# Altium schematic symbol library 220k 2W res TH.SchLib: 1 symbol
Pins are listed as number, name and electrical type; pins without a type are passive.

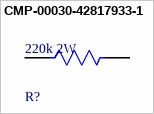
[diagram p0: symbol CMP-00030-42817933-1]

## CMP-00030-42817933-1
designator R?, comment 220k 2W
PR02000201003JA100 Fixed Resistor, Metal Film, 2W, 220000ohm, 500V, 5% +/-Tol, 250ppm/Cel, Through Hole Mount; NexarPartId: 42817933; Resistance: 220kΩ; Temperature Coefficient: 250ppm/°C; Case/Package: Conformal; Lead Free: Lead Free; Composition: Metal Film; Schedule B: 8533210090, 8533210090|8533210090, 8533210090|8533210090|8533210090, 8533210090|8533210090|8533210090|8533210090; Tolerance: 5%; RoHS: Compliant; Min Operating Temperature: -55°C; Diameter: 3.9mm; Max Operating Temperature: 155°C; Voltage Rating: 500V; Length: 12mm; Width: 3.9mm; Contact Plating: Tin; REACH SVHC: No SVHC; Operating Supply Voltage: 500V; Termination: Axial; Power Rating: 2W; Military Standard: Not; Radiation Hardening: No; Mount: Through Hole; Voltage Rating (DC): 500V
footprint FP-PR02000201003JA100-MFG
pins: 1, 2